# Altium footprint library ISP1807-LR_Footprint.PcbLib: 1 footprints
Each footprint in its own frame and in the unit in brackets; x right, y up, seen from the top. Pads: shape width x height; smd on the part's side, far side on the other; paste and mask are expansions set on the pad; w line width, h text height; cw(c..) or ccw(c..) is an arc to the next point about the centre after c.
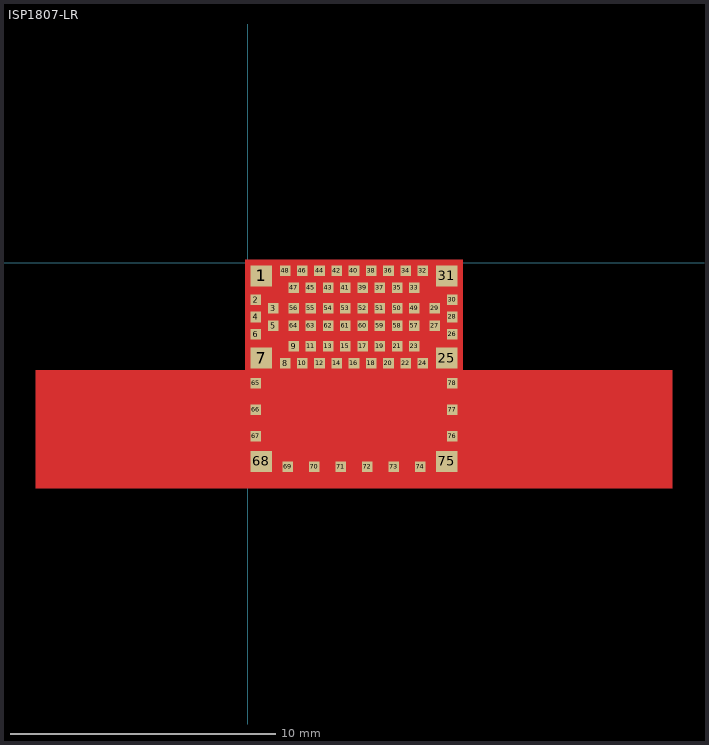
[diagram p0: the footprint, top view; thin cyan lines are the x and y axes]

## ISP1807-LR [mm] "Insight SiP BLE module all pins"
height 1
pads (78):
  rect 0.8x0.8 smd mask+0.05: 1(0.5,-0.5) 7(0.5,-3.6) 25(7.5,-3.6) 31(7.5,-0.5) 68(0.5,-7.5) 75(7.5,-7.5)
  rect 0.4x0.4 smd mask+0.05: 2(0.3,-1.4) 3(0.95,-1.725) 4(0.3,-2.05) 5(0.95,-2.375) 6(0.3,-2.7) 8(1.4,-3.8) 9(1.725,-3.15) 10(2.05,-3.8) 11(2.375,-3.15) 12(2.7,-3.8) 13(3.025,-3.15) 14(3.35,-3.8) 15(3.675,-3.15) 16(4,-3.8) 17(4.325,-3.15) 18(4.65,-3.8) 19(4.975,-3.15) 20(5.3,-3.8) 21(5.625,-3.15) 22(5.95,-3.8) 23(6.275,-3.15) 24(6.6,-3.8) 26(7.7,-2.7) 27(7.05,-2.375) 28(7.7,-2.05) 29(7.05,-1.725) 30(7.7,-1.4) 32(6.6,-0.3) 33(6.275,-0.95) 34(5.95,-0.3) 35(5.625,-0.95) 36(5.3,-0.3) 37(4.975,-0.95) 38(4.65,-0.3) 39(4.325,-0.95) 40(4,-0.3) 41(3.675,-0.95) 42(3.35,-0.3) 43(3.025,-0.95) 44(2.7,-0.3) 45(2.375,-0.95) 46(2.05,-0.3) 47(1.725,-0.95) 48(1.4,-0.3) 49(6.275,-1.725) 50(5.625,-1.725) 51(4.975,-1.725) 52(4.325,-1.725) 53(3.675,-1.725) 54(3.025,-1.725) 55(2.375,-1.725) 56(1.725,-1.725) 57(6.275,-2.375) 58(5.625,-2.375) 59(4.975,-2.375) 60(4.325,-2.375) 61(3.675,-2.375) 62(3.025,-2.375) 63(2.375,-2.375) 64(1.725,-2.375) 65(0.3,-4.55) 66(0.3,-5.55) 67(0.3,-6.55) 69(1.5,-7.701) 70(2.5,-7.701) 71(3.5,-7.701) 72(4.5,-7.701) 73(5.5,-7.701) 74(6.5,-7.701) 76(7.7,-6.55) 77(7.7,-5.55) 78(7.7,-4.55)
Top Layer:
  pour cut-out: 8.1,0.1 8.1,-4.05 16,-4.05 16,-8.5 -8,-8.5 -8,-4.05 -0.1,-4.05 -0.1,0.1
Mechanical 13:
  lines w0.1: 0,-8 8,-8 8,0 0,0 0,-8
Mechanical 15:
  lines w0.1: 3.5,-5.5 4.5,-5.5 ; 4,-6 4,-5
3D body: height 1.2, standoff 0.05, extent 0,-8 8,-4.05
3D body: height 1.2, standoff 0.05, extent 0,-4.05 8,0.01